# Altium footprint library TPS63001DRCR.PcbLib: 1 footprints
Each footprint in its own frame and in the unit in brackets; x right, y up, seen from the top. Pads: shape width x height; smd on the part's side, far side on the other; paste and mask are expansions set on the pad; w line width, h text height; cw(c..) or ccw(c..) is an arc to the next point about the centre after c.
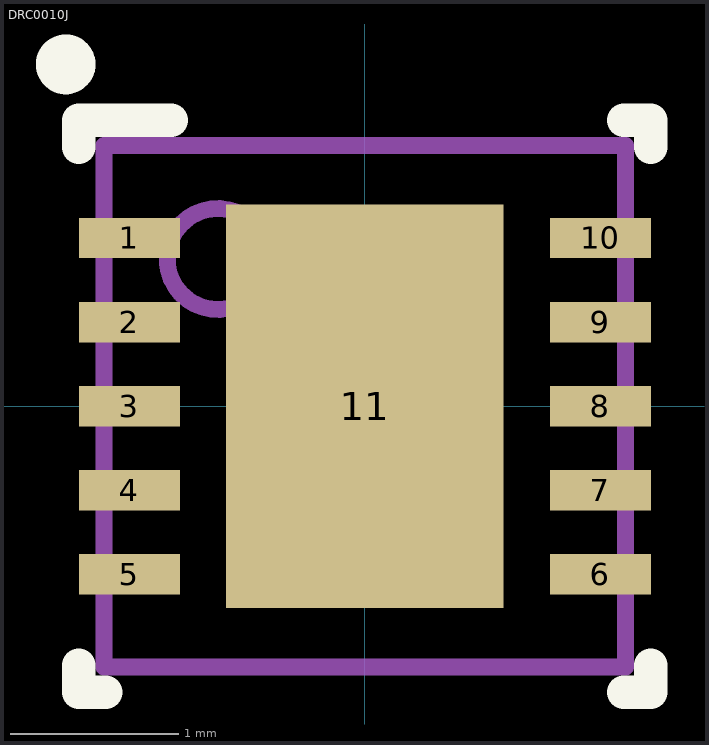
[diagram p0: the footprint, top view; thin cyan lines are the x and y axes]

## DRC0010J [mm]
pads (11):
  rect 0.6x0.24 smd paste+0 mask+0.051: 1(-1.4,1) 2(-1.4,0.5) 3(-1.4,0) 4(-1.4,-0.5) 5(-1.4,-1) 6(1.4,-1) 7(1.4,-0.5) 8(1.4,0) 9(1.4,0.5) 10(1.4,1)
  rect 1.65x2.4 smd paste-1.187 mask+0.051: 11(0,0)
Top Overlay:
  circle w0.254: c-1.778,2.032 r0.051
  lines w0.2: -1.7,-1.54 -1.7,-1.7 -1.54,-1.7 ; -1.7,1.54 -1.7,1.7 -1.15,1.7 ; 1.54,-1.7 1.7,-1.7 1.7,-1.54 ; 1.54,1.7 1.7,1.7 1.7,1.54
Top Paste:
  region: -0.75,-0.1 -0.75,-1.16 0.75,-1.16 0.75,-0.1
  region: -0.75,1.16 -0.75,0.1 0.75,0.1 0.75,1.16
Mechanical 13:
  circle w0.1: c-0.875,0.875 r0.3
  lines w0.1: -1.55,-1.55 -1.55,1.55 1.55,1.55 1.55,-1.55 -1.55,-1.55